# Altium footprint library LED_3528.PcbLib: 1 footprints
Each footprint in its own frame and in the unit in brackets; x right, y up, seen from the top. Pads: shape width x height; smd on the part's side, far side on the other; paste and mask are expansions set on the pad; w line width, h text height; cw(c..) or ccw(c..) is an arc to the next point about the centre after c.
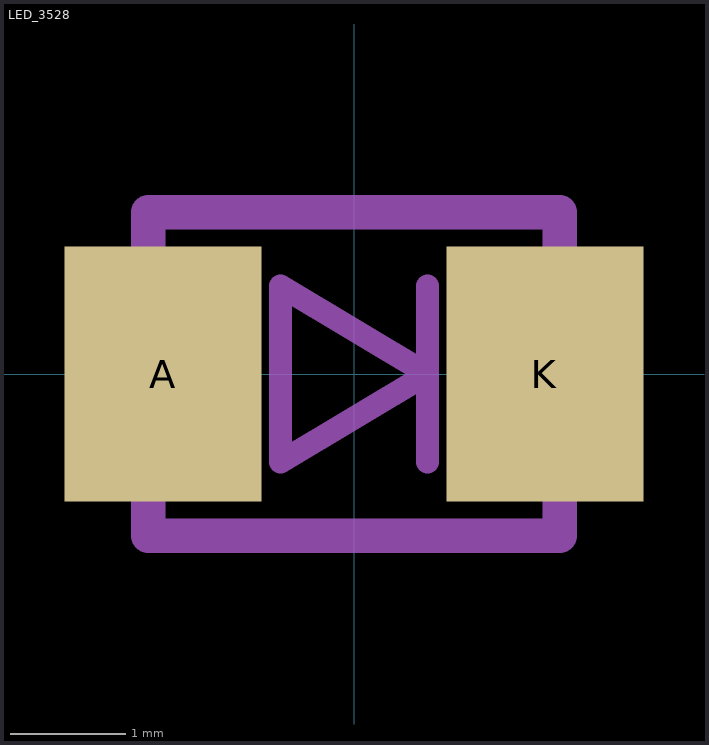
[diagram p0: the footprint, top view; thin cyan lines are the x and y axes]

## LED_3528 [mm]
pads (2):
  rect 1.7x2.2 smd: A(-1.65,0) K(1.65,0)
Mechanical 13:
  lines w0.2: 0.635,-0.762 0.635,0.762 ; -0.635,-0.762 0.635,0 -0.635,0.762 -0.635,-0.762
  lines w0.3: -1.778,-1.397 1.778,-1.397 1.778,1.397 -1.778,1.397 -1.778,-1.397
  text ".Designator" at -1.905,1.905 h2.5
3D body: height 1.9, standoff 0, extent -1.75,-1.4 1.75,1.4